# Altium footprint library PcbLib.PcbLib: 4 footprints
Each footprint in its own frame and in the unit in brackets; x right, y up, seen from the top. Pads: shape width x height; smd on the part's side, far side on the other; paste and mask are expansions set on the pad; w line width, h text height; cw(c..) or ccw(c..) is an arc to the next point about the centre after c.
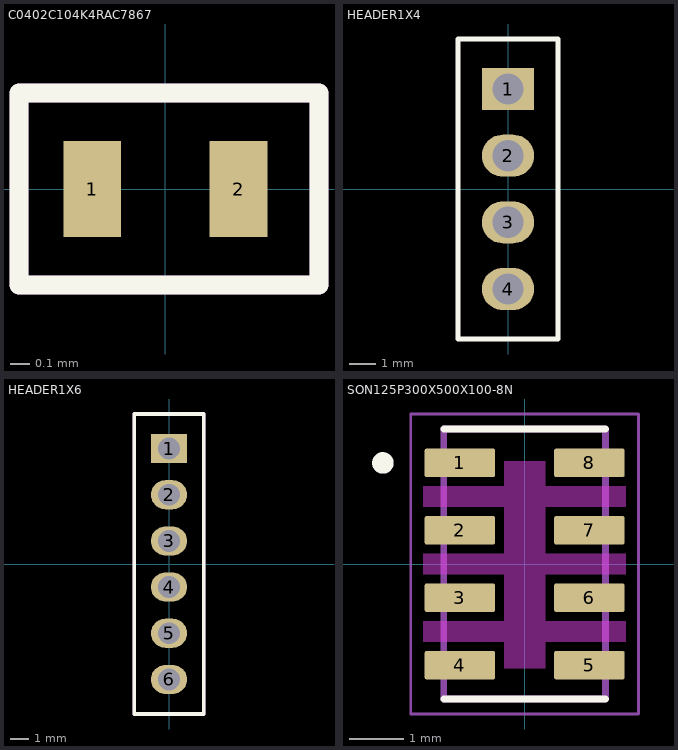
[diagram p0: the footprints below, top view; thin cyan lines are the x and y axes]

## C0402C104K4RAC7867 [mm]
pads (2):
  rect 0.3x0.5 smd: 1(-0.381,0) 2(0.381,0)
Top Overlay:
  lines w0.1: -0.762,-0.5 0.8,-0.5 0.8,0.5 -0.762,0.5 -0.762,-0.5
Top Assembly:
  lines w0.1: -0.762,-0.5 0.8,-0.5 0.8,0.5 -0.762,0.5 -0.762,-0.5
  text ".Designator" at -1.5,-0.1 h0.3
3D body "C0402C104K4RACTU.step": height 0.56, standoff 0.01, extent -0.525,-0.271 0.525,0.279

## HEADER1X4 [mm]
pads (4):
  rect 2x1.6 hole 1.2: 1(0,3.81)
  oval 2x1.6 hole 1.2: 2(0,1.27) 3(0,-1.27) 4(0,-3.81)
Top Overlay:
  lines w0.2: -1.905,-5.715 1.905,-5.715 1.905,5.715 -1.905,5.715 -1.905,-5.715
Top Assembly:
  text ".Designator" at -4.998,-0.333 h1
3D body "TS-104-T-A.step": height 8.29, standoff -3.82, extent -1.27,-5.182 1.27,5.182

## HEADER1X6 [mm]
pads (6):
  rect 2x1.6 hole 1.2: 1(0,6.35)
  oval 2x1.6 hole 1.2: 2(0,3.81) 3(0,1.27) 4(0,-1.27) 5(0,-3.81) 6(0,-6.35)
Top Overlay:
  lines w0.2: -1.905,-8.255 1.905,-8.255 1.905,8.255 -1.905,8.255 -1.905,-8.255
Top Assembly:
  lines w0.2: -1.905,-8.255 1.905,-8.255 1.905,8.255 -1.905,8.255 -1.905,-8.255
  text ".Designator" at -4.998,-0.333 h1
3D body "TS-106-T-A.step": height 8.29, standoff -3.82, extent -1.27,-7.722 1.27,7.722

## SON125P300X500X100-8N [mm]
pads (8):
  rrect15% 1.31x0.53 smd: 1(-1.2,1.875)
  rrect16% 1.31x0.53 smd: 2(-1.2,0.625) 3(-1.2,-0.625) 4(-1.2,-1.875) 5(1.2,-1.875) 6(1.2,-0.625) 7(1.2,0.625) 8(1.2,1.875)
Top Overlay:
  circle w0.2: c-2.627,1.873 r0.1
  lines w0.127: -1.5,-2.5 1.5,-2.5 ; -1.5,2.5 1.5,2.5
Keep-Out Layer:
  region: 1.875,1.064 -1.878,1.064 -1.878,1.438 1.875,1.438
  region: 1.875,1.064 -1.877,1.064 -1.877,1.438 1.875,1.438
  region: 1.875,1.063 -1.877,1.063 -1.877,1.438 1.875,1.438
  region: 1.875,-0.188 -1.877,-0.188 -1.877,0.188 1.875,0.188
  region: 1.875,-0.188 -1.877,-0.188 -1.877,0.188 1.875,0.188
  region: 1.875,-0.188 -1.876,-0.188 -1.876,0.188 1.875,0.188
  region: 1.875,-1.438 -1.875,-1.438 -1.875,-1.062 1.875,-1.062
  region: 1.875,-1.439 -1.877,-1.439 -1.877,-1.062 1.875,-1.062
  region: 1.875,-1.439 -1.877,-1.439 -1.877,-1.062 1.875,-1.062
  region: 0.381,-1.936 -0.375,-1.936 -0.375,1.905 0.381,1.905
  region: 0.381,-1.937 -0.376,-1.937 -0.376,1.905 0.381,1.905
  region: 0.381,-1.934 -0.375,-1.934 -0.375,1.905 0.381,1.905
Mechanical 13:
  circle w0.2: c-1.127,1.873 r0.1
  lines w0.127: -1.5,-2.5 -1.5,2.5 1.5,2.5 1.5,-2.5 -1.5,-2.5
Mechanical 15:
  lines w0.05: -2.11,-2.78 -2.11,2.78 2.11,2.78 2.11,-2.78 -2.11,-2.78
3D body "MS560702BA03-50.step": height 0.96, standoff 0.01, extent -1.5,-2.5 1.5,2.5